# Altium footprint library PcbLib2.PcbLib: 1 footprints
Each footprint in its own frame and in the unit in brackets; x right, y up, seen from the top. Pads: shape width x height; smd on the part's side, far side on the other; paste and mask are expansions set on the pad; w line width, h text height; cw(c..) or ccw(c..) is an arc to the next point about the centre after c.
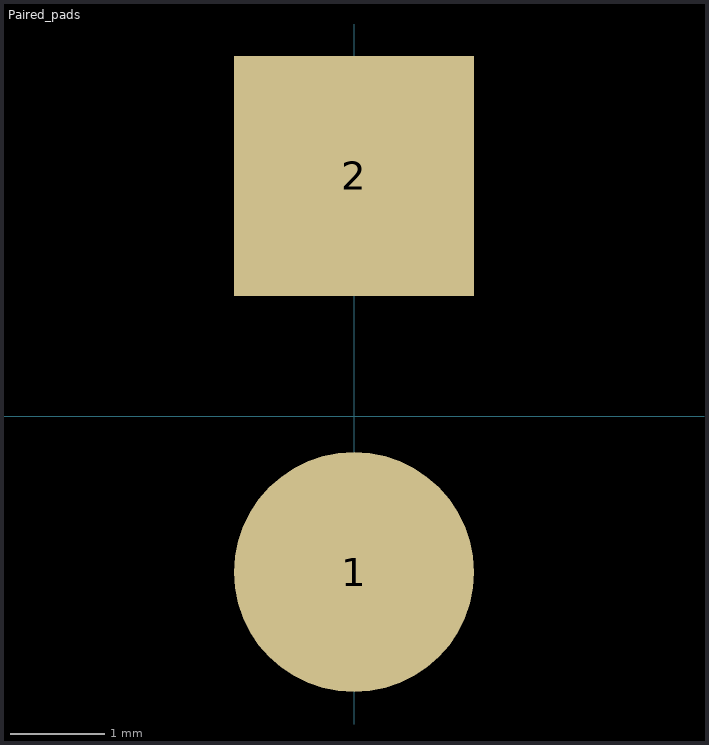
[diagram p0: the footprint, top view; thin cyan lines are the x and y axes]

## Paired_pads [mil]
pads (2):
  round 100 / inner round 100 / far side round 0 all layers, no hole: 1(0,-65)
  rect 100x100 / inner round 100 / far side round 0 all layers, no hole: 2(0,100)